# Altium schematic symbol library protocol-bridge.SCHLIB: 23 symbols
Pins are listed as number, name and electrical type; pins without a type are passive.

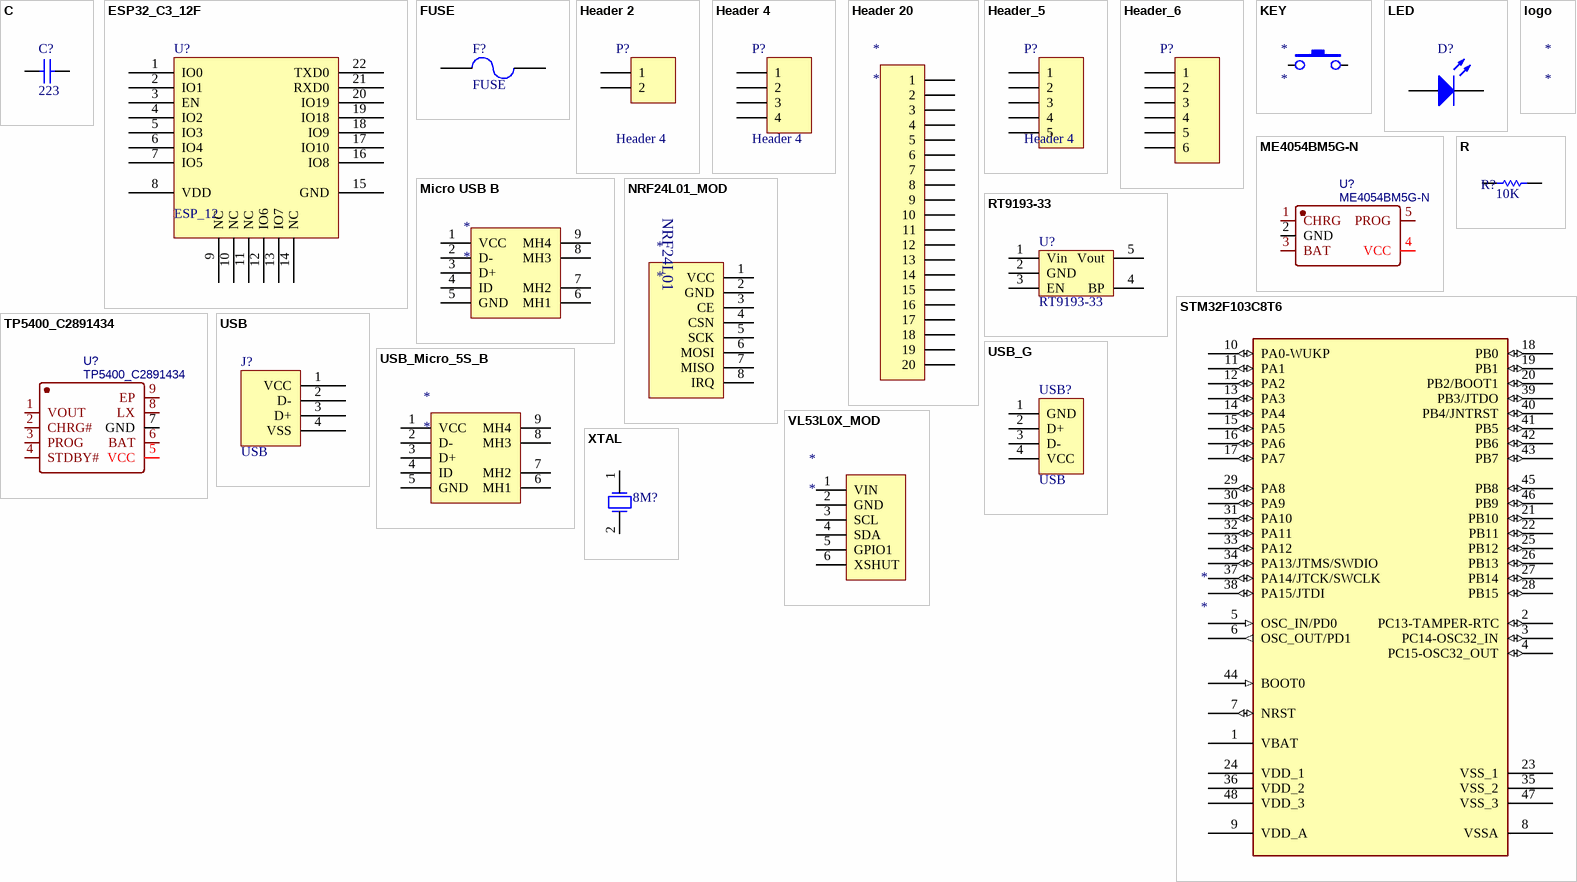
[diagram p0: symbols C to XTAL]

## C
designator C?, comment 223
Capacitor
footprint C0805 (Chip Capacitor, Body 2.0x1.3mm, IPC High Density)
footprint C0603
footprint C-RAD-0603 (贴片电容)
pins: 1, 2

## ESP32_C3_12F
designator U?, comment ESP_12
ESP-12 Wi-Fi Module by AI-Thinker; IC: ESP8266-EX; Vendor: Ai-thinker
footprint ESP32-C3-12F (ESP-12 Wi-Fi Module by AI-Thinker)
pins: 1 IO0 "Reset", 2 IO1 "ADC Input Or TOUT Output", 3 EN "Chip enable", 4 IO2 "GPIO16 or Deep-Sleep Wakeup", 5 IO3 "GPIO14 or SPI CLK", 6 IO4 "GPIO12 or SPIQ", 7 IO5 "GPIO13 or SPID", 8 VDD "Power supply", 9 NC "Power supply", 10 NC "Power supply", 11 NC "Power supply", 12 IO6 "Power supply", 13 IO7 "Power supply", 14 NC "Power supply", 15 GND "Power ground", 16 IO8 "GPIO15 or SPICS", 17 IO10 "GPIO2 or TX", 18 IO9 "GPIO0 or SPICS2", 19 IO18 "GPIO5", 20 IO19 "GPIO4", 21 RXD0 "GPIO3 or UART RXD", 22 TXD0 "GPIO1 or UART TXD"

## FUSE
designator F?
footprint FUSE
footprint 0603-1 (贴片带丝印)
pins: 1, 2

## Header 2
designator P?, comment Header 4
Header, 4-Pin; LatestRevisionDate: 17-Jul-2002; LatestRevisionNote: Re-released for DXP Platform.; Publisher: Altium Limited
footprint p4
signal-integrity model Connector
pins: 1, 2

## Header 4
designator P?
Header, 4-Pin; LatestRevisionDate: 17-Jul-2002; LatestRevisionNote: Re-released for DXP Platform.; Publisher: Altium Limited
footprint p4
signal-integrity model Connector
pins: 1, 2, 3, 4

## Header 20
designator *
footprint HEADER_20x1
pins: 1, 2, 3, 4, 5, 6, 7, 8, 9, 10, 11, 12, 13, 14, 15, 16, 17, 18, 19, 20

## Header_5
designator P?, comment Header 4
Header, 4-Pin; LatestRevisionDate: 17-Jul-2002; LatestRevisionNote: Re-released for DXP Platform.; Publisher: Altium Limited
footprint p4
signal-integrity model Connector
pins: 1, 2, 3, 4, 5

## Header_6
designator P?
Header, 4-Pin; LatestRevisionDate: 17-Jul-2002; LatestRevisionNote: Re-released for DXP Platform.; Publisher: Altium Limited
footprint p4
signal-integrity model Connector
pins: 1, 2, 3, 4, 5, 6

## KEY
designator *
footprint KEY
footprint SMT_SW_PTS_820
pins: 1, 2

## LED
designator D?, comment D0603  (value not drawn)
Typical RED, GREEN, YELLOW, AMBER GaAs LED; Published: 8-Jun-2000; LatestRevisionDate: 17-Jul-2002; LatestRevisionNote: Re-released for DXP Platform.; PackageVersion: Feb-2002; PackageReference: 3.2X1.6X1.1; Publisher: Altium Limited; PackageDescription: SM LED; 2 Flat Leads
simulation model LED2 (Diode)
footprint 0603-1 (贴片带丝印)
pins: 1 A, 2 K

## logo
designator *

## ME4054BM5G-N
designator U?
BOM_Manufacturer: MICRONE(Nanjing Micro One Elec); Contributor: LCSC; BOM_Supplier: LCSC; BOM_Supplier Part: C478383; BOM_Manufacturer Part: ME4054BM5G-N; BOM_JLCPCB Part Class: Extended Part; spicePre: U; spiceSymbolName: ME4054BM5G-N
footprint TSOT-23-5_L2.9-W1.6-P0.95-LS2.8-BL
pins: 1 CHRG, 2 GND, 3 BAT, 4 VCC, 5 PROG

## Micro USB B
designator *
pins: 1 VCC, 2 D-, 3 D+, 4 ID, 5 GND, 6 MH1, 7 MH2, 8 MH3, 9 MH4

## NRF24L01_MOD
designator *
pins: 1 VCC, 2 GND, 3 CE, 4 CSN, 5 SCK, 6 MOSI, 7 MISO, 8 IRQ
text: NRF24L01

## R
designator R?, comment value 10K  (hidden comment: R0603)
Resistor; Published: 8-Jun-2000; LatestRevisionDate: 17-Jul-2002; LatestRevisionNote: Re-released for DXP Platform.; PackageReference: AXIAL-0.3; Publisher: Altium Limited; PackageDescription: Axial Device, Thru-Hole; 2 Leads; 0.3 in Pin Spacing
simulation model RESISTOR (Resistor)
signal-integrity model Res
footprint r0603
pins: 1, 2

## RT9193-33
designator U?
footprint SOT23-5 (Max4173)
pins: 1 Vin, 2 GND, 3 EN, 4 BP, 5 Vout

## STM32F103C8T6
designator *
pins: 1 VBAT, 2 PC13-TAMPER-RTC (io), 3 PC14-OSC32_IN (io), 4 PC15-OSC32_OUT (io), 5 OSC_IN/PD0 (in), 6 OSC_OUT/PD1 (out), 7 NRST (io), 8 VSSA, 9 VDD_A, 10 PA0-WUKP (io), 11 PA1 (io), 12 PA2 (io), 13 PA3 (io), 14 PA4 (io), 15 PA5 (io), 16 PA6 (io), 17 PA7 (io), 18 PB0 (io), 19 PB1 (io), 20 PB2/BOOT1 (io), 21 PB10 (io), 22 PB11 (io), 23 VSS_1, 24 VDD_1, 25 PB12 (io), 26 PB13 (io), 27 PB14 (io), 28 PB15 (io), 29 PA8 (io), 30 PA9 (io), 31 PA10 (io), 32 PA11 (io), 33 PA12 (io), 34 PA13/JTMS/SWDIO (io), 35 VSS_2, 36 VDD_2, 37 PA14/JTCK/SWCLK (io), 38 PA15/JTDI (io), 39 PB3/JTDO (io), 40 PB4/JNTRST (io), 41 PB5 (io), 42 PB6 (io), 43 PB7 (io), 44 BOOT0 (in), 45 PB8 (io), 46 PB9 (io), 47 VSS_3, 48 VDD_3

## TP5400_C2891434
designator U?
BOM_Manufacturer: TOPPOWER(南京拓微); BOM_Manufacturer Part: TP5400; Contributor: LCSC; BOM_Supplier: LCSC; BOM_Supplier Part: C2891434; BOM_JLCPCB Part Class: Extended Part; spicePre: U; spiceSymbolName: TP5400_C2891434
footprint ESOP-8_L4.9-W3.9-P1.27-LS6.0-BL-EP
pins: 1 VOUT, 2 CHRG#, 3 PROG, 4 STDBY#, 5 VCC, 6 BAT, 7 GND, 8 LX, 9 EP

## USB
designator J?
USB接口
footprint USB (USB贴片公头)
pins: 1 VCC, 2 D-, 3 D+, 4 VSS

## USB_G
designator USB?, comment USB
footprint USB_A_G
pins: 1 GND, 2 D+, 3 D-, 4 VCC

## USB_Micro_5S_B
designator *
pins: 1 VCC, 2 D-, 3 D+, 4 ID, 5 GND, 6 MH1, 7 MH2, 8 MH3, 9 MH4

## VL53L0X_MOD
designator *
pins: 1 VIN, 2 GND, 3 SCL, 4 SDA, 5 GPIO1, 6 XSHUT

## XTAL
designator 8M?  (value not drawn)
footprint xtal
pins: 1, 2